# EAGLE library part AVRISP (library SteveMarple)
AVR ISP HEADER Standard 6 pin header for AVR programming
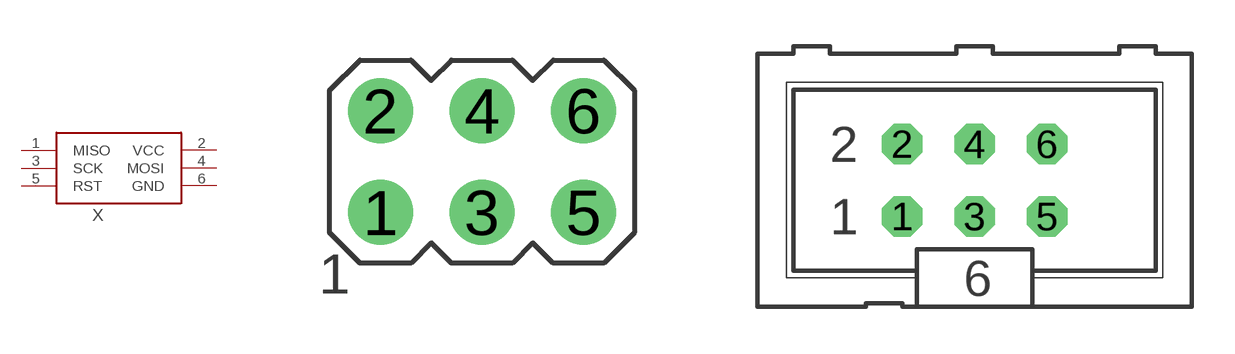
[diagram p18: symbol with the pads of AVRISP; footprints AVRISP, CONN-HARTING-ML6]

Designator prefix X

## AVRISP-HEADER-6  [AVRISP]
1  MISO  in
2  VCC  pwr
3  SCK  out
4  MOSI  out
5  RST  out
6  GND  pwr

## AVRISP-HEADER-6-SHROUDED  [CONN-HARTING-ML6]
Pads as for AVRISP

## Footprint AVRISP (pad centres in mm)
drill 0.9 pad 1.626: 1 -2.54,-1.27; 2 -2.54,1.27; 3 0,-1.27; 4 0,1.27; 5 2.54,-1.27; 6 2.54,1.27

## Footprint CONN-HARTING-ML6 (pad centres in mm)
HARTING
drill 0.914 octagon: 1 -2.54,-1.27; 2 -2.54,1.27; 3 0,-1.27; 4 0,1.27; 5 2.54,-1.27; 6 2.54,1.27